# Altium schematic symbol library VDMX10A0.SchLib: 1 symbol
Pins are listed as number, name and electrical type; pins without a type are passive.

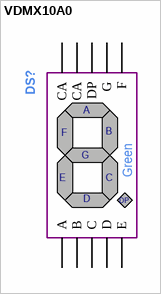
[diagram p0: symbol VDMX10A0]

## VDMX10A0
designator DS?  Color: Green  (hidden comment: VDMX10A0)
Display: LED; SMD; 7-segment; 10mm; 0.11-0.4mcd; anode; 0.39
pins: 1 E, 2 D, 3 CA, 4 C, 5 DP, 6 B, 7 A, 8 CA, 9 F, 10 G